# Altium schematic symbol library N-BJT BCP54.Schlib: 1 symbol
Pins are listed as number, name and electrical type; pins without a type are passive.

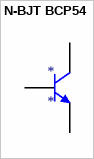
[diagram p0: symbol N-BJT BCP54]

## N-BJT BCP54
designator *
TRANS NPN 45V 1A SOT223
pins: 1 B, 2 C, 3 E